# Altium schematic symbol library Resistors$.SchLib: 1243 symbols (part 3 of 7)
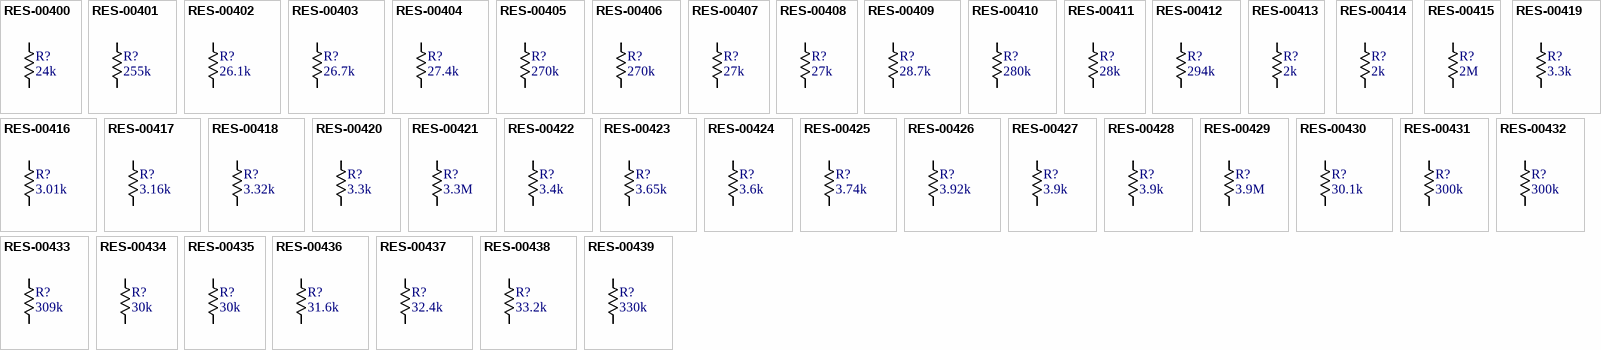
[diagram p34: symbols RES-00400 to RES-00439]

## RES-00411
designator R?, comment 28k
RES SMD 28K OHM 1% 1/8W 0805; Part Number: RES-00411; Manufacturer: Rohm Semiconductor; Manufacturer PN: KTR10EZPF2802; Power Rating: 0.125W; Resistance: 28k; Tolerance: 1%
footprint chip_0805
pins: 1, 2

## RES-00412
designator R?, comment 294k
RES SMD 294K OHM 1% 1/8W 0805; Part Number: RES-00412; Manufacturer: Rohm Semiconductor; Manufacturer PN: KTR10EZPF2943; Power Rating: 0.125W; Resistance: 294k; Tolerance: 1%
footprint chip_0805
pins: 1, 2

## RES-00413
designator R?, comment 2k
RES SMD 2K OHM 1% 1/4W 0603; Part Number: RES-00413; Manufacturer: Panasonic; Manufacturer PN: ERJ-PA3F2001V; Power Rating: 0.25W; Resistance: 2k; Tolerance: 1%
footprint chip_0603
pins: 1, 2

## RES-00414
designator R?, comment 2k
RES SMD 2K OHM 1% 1/8W 0805; Part Number: RES-00414; Manufacturer: Rohm Semiconductor; Manufacturer PN: KTR10EZPF2001; Power Rating: 0.125W; Resistance: 2k; Tolerance: 1%
footprint chip_0805
pins: 1, 2

## RES-00415
designator R?, comment 2M
RES SMD 2M OHM 1% 1/8W 0805; Part Number: RES-00415; Manufacturer: Rohm Semiconductor; Manufacturer PN: KTR10EZPF2004; Power Rating: 0.125W; Resistance: 2M; Tolerance: 1%
footprint chip_0805
pins: 1, 2

## RES-00416
designator R?, comment 3.01k
RES SMD 3.01K OHM 1% 1/8W 0805; Part Number: RES-00416; Manufacturer: Rohm Semiconductor; Manufacturer PN: KTR10EZPF3011; Power Rating: 0.125W; Resistance: 3.01k; Tolerance: 1%
footprint chip_0805
pins: 1, 2

## RES-00417
designator R?, comment 3.16k
RES SMD 3.16K OHM 1% 1/8W 0805; Part Number: RES-00417; Manufacturer: Rohm Semiconductor; Manufacturer PN: KTR10EZPF3161; Power Rating: 0.125W; Resistance: 3.16k; Tolerance: 1%
footprint chip_0805
pins: 1, 2

## RES-00418
designator R?, comment 3.32k
RES SMD 3.32K OHM 1% 1/8W 0805; Part Number: RES-00418; Manufacturer: Rohm Semiconductor; Manufacturer PN: KTR10EZPF3321; Power Rating: 0.125W; Resistance: 3.32k; Tolerance: 1%
footprint chip_0805
pins: 1, 2

## RES-00419
designator R?, comment 3.3k
RES SMD 3.3K OHM 1% 1/4W 0603; Part Number: RES-00419; Manufacturer: Panasonic; Manufacturer PN: ERJ-PA3F3301V; Power Rating: 0.25W; Resistance: 3.3k; Tolerance: 1%
footprint chip_0603
pins: 1, 2

## RES-00420
designator R?, comment 3.3k
RES SMD 3.3K OHM 1% 1/8W 0805; Part Number: RES-00420; Manufacturer: Rohm Semiconductor; Manufacturer PN: KTR10EZPF3301; Power Rating: 0.125W; Resistance: 3.3k; Tolerance: 1%
footprint chip_0805
pins: 1, 2

## RES-00421
designator R?, comment 3.3M
RES SMD 3.3M OHM 1% 1/8W 0805; Part Number: RES-00421; Manufacturer: Rohm Semiconductor; Manufacturer PN: KTR10EZPF3304; Power Rating: 0.125W; Resistance: 3.3M; Tolerance: 1%
footprint chip_0805
pins: 1, 2

## RES-00422
designator R?, comment 3.4k
RES SMD 3.4K OHM 1% 1/8W 0805; Part Number: RES-00422; Manufacturer: Rohm Semiconductor; Manufacturer PN: KTR10EZPF3401; Power Rating: 0.125W; Resistance: 3.4k; Tolerance: 1%
footprint chip_0805
pins: 1, 2

## RES-00423
designator R?, comment 3.65k
RES SMD 3.65K OHM 1% 1/8W 0805; Part Number: RES-00423; Manufacturer: Rohm Semiconductor; Manufacturer PN: KTR10EZPF3651; Power Rating: 0.125W; Resistance: 3.65k; Tolerance: 1%
footprint chip_0805
pins: 1, 2

## RES-00424
designator R?, comment 3.6k
RES SMD 3.6K OHM 1% 1/4W 0603; Part Number: RES-00424; Manufacturer: Panasonic; Manufacturer PN: ERJ-PA3F3601V; Power Rating: 0.25W; Resistance: 3.6k; Tolerance: 1%
footprint chip_0603
pins: 1, 2

## RES-00425
designator R?, comment 3.74k
RES SMD 3.74K OHM 1% 1/8W 0805; Part Number: RES-00425; Manufacturer: Rohm Semiconductor; Manufacturer PN: KTR10EZPF3741; Power Rating: 0.125W; Resistance: 3.74k; Tolerance: 1%
footprint chip_0805
pins: 1, 2

## RES-00426
designator R?, comment 3.92k
RES SMD 3.92K OHM 1% 1/8W 0805; Part Number: RES-00426; Manufacturer: Rohm Semiconductor; Manufacturer PN: KTR10EZPF3921; Power Rating: 0.125W; Resistance: 3.92k; Tolerance: 1%
footprint chip_0805
pins: 1, 2

## RES-00427
designator R?, comment 3.9k
RES SMD 3.9K OHM 1% 1/4W 0603; Part Number: RES-00427; Manufacturer: Panasonic; Manufacturer PN: ERJ-PA3F3901V; Power Rating: 0.25W; Resistance: 3.9k; Tolerance: 1%
footprint chip_0603
pins: 1, 2

## RES-00428
designator R?, comment 3.9k
RES SMD 3.9K OHM 1% 1/8W 0805; Part Number: RES-00428; Manufacturer: Rohm Semiconductor; Manufacturer PN: KTR10EZPF3901; Power Rating: 0.125W; Resistance: 3.9k; Tolerance: 1%
footprint chip_0805
pins: 1, 2

## RES-00429
designator R?, comment 3.9M
RES SMD 3.9M OHM 1% 1/8W 0805; Part Number: RES-00429; Manufacturer: Rohm Semiconductor; Manufacturer PN: KTR10EZPF3904; Power Rating: 0.125W; Resistance: 3.9M; Tolerance: 1%
footprint chip_0805
pins: 1, 2

## RES-00430
designator R?, comment 30.1k
RES SMD 30.1K OHM 1% 1/8W 0805; Part Number: RES-00430; Manufacturer: Rohm Semiconductor; Manufacturer PN: KTR10EZPF3012; Power Rating: 0.125W; Resistance: 30.1k; Tolerance: 1%
footprint chip_0805
pins: 1, 2

## RES-00431
designator R?, comment 300k
RES SMD 300K OHM 1% 1/4W 0603; Part Number: RES-00431; Manufacturer: Panasonic; Manufacturer PN: ERJ-PA3F3003V; Power Rating: 0.25W; Resistance: 300k; Tolerance: 1%
footprint chip_0603
pins: 1, 2

## RES-00432
designator R?, comment 300k
RES SMD 300K OHM 1% 1/8W 0805; Part Number: RES-00432; Manufacturer: Rohm Semiconductor; Manufacturer PN: KTR10EZPF3003; Power Rating: 0.125W; Resistance: 300k; Tolerance: 1%
footprint chip_0805
pins: 1, 2

## RES-00433
designator R?, comment 309k
RES SMD 309K OHM 1% 1/8W 0805; Part Number: RES-00433; Manufacturer: Rohm Semiconductor; Manufacturer PN: KTR10EZPF3093; Power Rating: 0.125W; Resistance: 309k; Tolerance: 1%
footprint chip_0805
pins: 1, 2

## RES-00434
designator R?, comment 30k
RES SMD 30K OHM 1% 1/4W 0603; Part Number: RES-00434; Manufacturer: Panasonic; Manufacturer PN: ERJ-PA3F3002V; Power Rating: 0.25W; Resistance: 30k; Tolerance: 1%
footprint chip_0603
pins: 1, 2

## RES-00435
designator R?, comment 30k
RES SMD 30K OHM 1% 1/8W 0805; Part Number: RES-00435; Manufacturer: Rohm Semiconductor; Manufacturer PN: KTR10EZPF3002; Power Rating: 0.125W; Resistance: 30k; Tolerance: 1%
footprint chip_0805
pins: 1, 2

## RES-00436
designator R?, comment 31.6k
RES SMD 31.6K OHM 1% 1/8W 0805; Part Number: RES-00436; Manufacturer: Rohm Semiconductor; Manufacturer PN: KTR10EZPF3162; Power Rating: 0.125W; Resistance: 31.6k; Tolerance: 1%
footprint chip_0805
pins: 1, 2

## RES-00437
designator R?, comment 32.4k
RES SMD 32.4K OHM 1% 1/8W 0805; Part Number: RES-00437; Manufacturer: Rohm Semiconductor; Manufacturer PN: KTR10EZPF3242; Power Rating: 0.125W; Resistance: 32.4k; Tolerance: 1%
footprint chip_0805
pins: 1, 2

## RES-00438
designator R?, comment 33.2k
RES SMD 33.2K OHM 1% 1/8W 0805; Part Number: RES-00438; Manufacturer: Rohm Semiconductor; Manufacturer PN: KTR10EZPF3322; Power Rating: 0.125W; Resistance: 33.2k; Tolerance: 1%
footprint chip_0805
pins: 1, 2

## RES-00439
designator R?, comment 330k
RES SMD 330K OHM 1% 1/4W 0603; Part Number: RES-00439; Manufacturer: Panasonic; Manufacturer PN: ERJ-PA3F3303V; Power Rating: 0.25W; Resistance: 330k; Tolerance: 1%
footprint chip_0603
pins: 1, 2

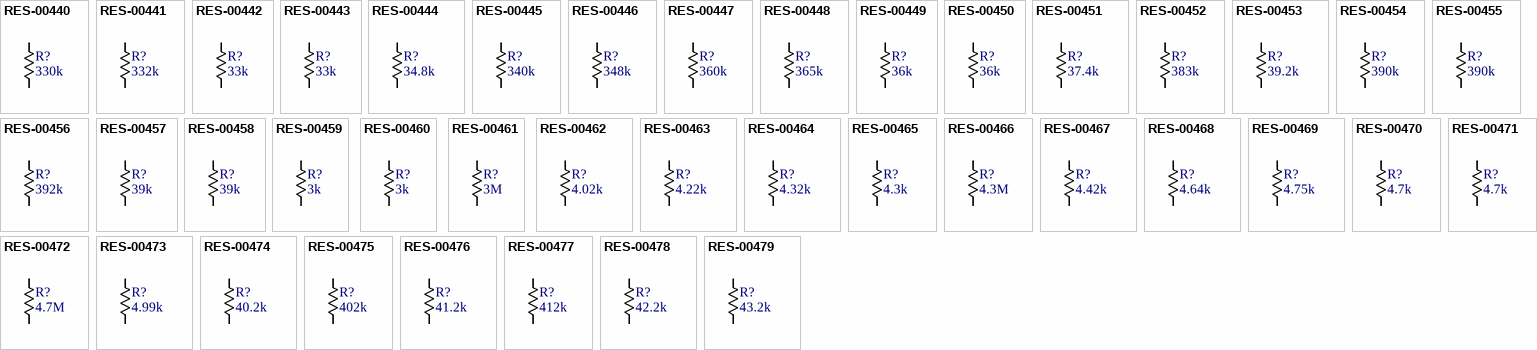
[diagram p11: symbols RES-00440 to RES-00479]

## RES-00440
designator R?, comment 330k
RES SMD 330K OHM 1% 1/8W 0805; Part Number: RES-00440; Manufacturer: Rohm Semiconductor; Manufacturer PN: KTR10EZPF3303; Power Rating: 0.125W; Resistance: 330k; Tolerance: 1%
footprint chip_0805
pins: 1, 2

## RES-00441
designator R?, comment 332k
RES SMD 332K OHM 1% 1/8W 0805; Part Number: RES-00441; Manufacturer: Rohm Semiconductor; Manufacturer PN: KTR10EZPF3323; Power Rating: 0.125W; Resistance: 332k; Tolerance: 1%
footprint chip_0805
pins: 1, 2

## RES-00442
designator R?, comment 33k
RES SMD 33K OHM 1% 1/4W 0603; Part Number: RES-00442; Manufacturer: Panasonic; Manufacturer PN: ERJ-PA3F3302V; Power Rating: 0.25W; Resistance: 33k; Tolerance: 1%
footprint chip_0603
pins: 1, 2

## RES-00443
designator R?, comment 33k
RES SMD 33K OHM 1% 1/8W 0805; Part Number: RES-00443; Manufacturer: Rohm Semiconductor; Manufacturer PN: KTR10EZPF3302; Power Rating: 0.125W; Resistance: 33k; Tolerance: 1%
footprint chip_0805
pins: 1, 2

## RES-00444
designator R?, comment 34.8k
RES SMD 34.8K OHM 1% 1/8W 0805; Part Number: RES-00444; Manufacturer: Rohm Semiconductor; Manufacturer PN: KTR10EZPF3482; Power Rating: 0.125W; Resistance: 34.8k; Tolerance: 1%
footprint chip_0805
pins: 1, 2

## RES-00445
designator R?, comment 340k
RES SMD 340K OHM 1% 1/8W 0805; Part Number: RES-00445; Manufacturer: Rohm Semiconductor; Manufacturer PN: KTR10EZPF3403; Power Rating: 0.125W; Resistance: 340k; Tolerance: 1%
footprint chip_0805
pins: 1, 2

## RES-00446
designator R?, comment 348k
RES SMD 348K OHM 1% 1/8W 0805; Part Number: RES-00446; Manufacturer: Rohm Semiconductor; Manufacturer PN: KTR10EZPF3483; Power Rating: 0.125W; Resistance: 348k; Tolerance: 1%
footprint chip_0805
pins: 1, 2

## RES-00447
designator R?, comment 360k
RES SMD 360K OHM 1% 1/4W 0603; Part Number: RES-00447; Manufacturer: Panasonic; Manufacturer PN: ERJ-PA3F3603V; Power Rating: 0.25W; Resistance: 360k; Tolerance: 1%
footprint chip_0603
pins: 1, 2

## RES-00448
designator R?, comment 365k
RES SMD 365K OHM 1% 1/8W 0805; Part Number: RES-00448; Manufacturer: Rohm Semiconductor; Manufacturer PN: KTR10EZPF3653; Power Rating: 0.125W; Resistance: 365k; Tolerance: 1%
footprint chip_0805
pins: 1, 2

## RES-00449
designator R?, comment 36k
RES SMD 36K OHM 1% 1/4W 0603; Part Number: RES-00449; Manufacturer: Panasonic; Manufacturer PN: ERJ-PA3F3602V; Power Rating: 0.25W; Resistance: 36k; Tolerance: 1%
footprint chip_0603
pins: 1, 2

## RES-00450
designator R?, comment 36k
RES SMD 36K OHM 1% 1/8W 0805; Part Number: RES-00450; Manufacturer: Rohm Semiconductor; Manufacturer PN: KTR10EZPF3602; Power Rating: 0.125W; Resistance: 36k; Tolerance: 1%
footprint chip_0805
pins: 1, 2

## RES-00451
designator R?, comment 37.4k
RES SMD 37.4K OHM 1% 1/8W 0805; Part Number: RES-00451; Manufacturer: Rohm Semiconductor; Manufacturer PN: KTR10EZPF3742; Power Rating: 0.125W; Resistance: 37.4k; Tolerance: 1%
footprint chip_0805
pins: 1, 2

## RES-00452
designator R?, comment 383k
RES SMD 383K OHM 1% 1/8W 0805; Part Number: RES-00452; Manufacturer: Rohm Semiconductor; Manufacturer PN: KTR10EZPF3833; Power Rating: 0.125W; Resistance: 383k; Tolerance: 1%
footprint chip_0805
pins: 1, 2

## RES-00453
designator R?, comment 39.2k
RES SMD 39.2K OHM 1% 1/8W 0805; Part Number: RES-00453; Manufacturer: Rohm Semiconductor; Manufacturer PN: KTR10EZPF3922; Power Rating: 0.125W; Resistance: 39.2k; Tolerance: 1%
footprint chip_0805
pins: 1, 2

## RES-00454
designator R?, comment 390k
RES SMD 390K OHM 1% 1/4W 0603; Part Number: RES-00454; Manufacturer: Panasonic; Manufacturer PN: ERJ-PA3F3903V; Power Rating: 0.25W; Resistance: 390k; Tolerance: 1%
footprint chip_0603
pins: 1, 2

## RES-00455
designator R?, comment 390k
RES SMD 390K OHM 1% 1/8W 0805; Part Number: RES-00455; Manufacturer: Rohm Semiconductor; Manufacturer PN: KTR10EZPF3903; Power Rating: 0.125W; Resistance: 390k; Tolerance: 1%
footprint chip_0805
pins: 1, 2

## RES-00456
designator R?, comment 392k
RES SMD 392K OHM 1% 1/8W 0805; Part Number: RES-00456; Manufacturer: Rohm Semiconductor; Manufacturer PN: KTR10EZPF3923; Power Rating: 0.125W; Resistance: 392k; Tolerance: 1%
footprint chip_0805
pins: 1, 2

## RES-00457
designator R?, comment 39k
RES SMD 39K OHM 1% 1/4W 0603; Part Number: RES-00457; Manufacturer: Panasonic; Manufacturer PN: ERJ-PA3F3902V; Power Rating: 0.25W; Resistance: 39k; Tolerance: 1%
footprint chip_0603
pins: 1, 2

## RES-00458
designator R?, comment 39k
RES SMD 39K OHM 1% 1/8W 0805; Part Number: RES-00458; Manufacturer: Rohm Semiconductor; Manufacturer PN: KTR10EZPF3902; Power Rating: 0.125W; Resistance: 39k; Tolerance: 1%
footprint chip_0805
pins: 1, 2

## RES-00459
designator R?, comment 3k
RES SMD 3K OHM 1% 1/4W 0603; Part Number: RES-00459; Manufacturer: Panasonic; Manufacturer PN: ERJ-PA3F3001V; Power Rating: 0.25W; Resistance: 3k; Tolerance: 1%
footprint chip_0603
pins: 1, 2

## RES-00460
designator R?, comment 3k
RES SMD 3K OHM 1% 1/8W 0805; Part Number: RES-00460; Manufacturer: Rohm Semiconductor; Manufacturer PN: KTR10EZPF3001; Power Rating: 0.125W; Resistance: 3k; Tolerance: 1%
footprint chip_0805
pins: 1, 2

## RES-00461
designator R?, comment 3M
RES SMD 3M OHM 1% 1/8W 0805; Part Number: RES-00461; Manufacturer: Rohm Semiconductor; Manufacturer PN: KTR10EZPF3004; Power Rating: 0.125W; Resistance: 3M; Tolerance: 1%
footprint chip_0805
pins: 1, 2

## RES-00462
designator R?, comment 4.02k
RES SMD 4.02K OHM 1% 1/8W 0805; Part Number: RES-00462; Manufacturer: Rohm Semiconductor; Manufacturer PN: KTR10EZPF4021; Power Rating: 0.125W; Resistance: 4.02k; Tolerance: 1%
footprint chip_0805
pins: 1, 2

## RES-00463
designator R?, comment 4.22k
RES SMD 4.22K OHM 1% 1/8W 0805; Part Number: RES-00463; Manufacturer: Rohm Semiconductor; Manufacturer PN: KTR10EZPF4221; Power Rating: 0.125W; Resistance: 4.22k; Tolerance: 1%
footprint chip_0805
pins: 1, 2

## RES-00464
designator R?, comment 4.32k
RES SMD 4.32K OHM 1% 1/8W 0805; Part Number: RES-00464; Manufacturer: Rohm Semiconductor; Manufacturer PN: KTR10EZPF4321; Power Rating: 0.125W; Resistance: 4.32k; Tolerance: 1%
footprint chip_0805
pins: 1, 2

## RES-00465
designator R?, comment 4.3k
RES SMD 4.3K OHM 1% 1/4W 0603; Part Number: RES-00465; Manufacturer: Panasonic; Manufacturer PN: ERJ-PA3F4301V; Power Rating: 0.25W; Resistance: 4.3k; Tolerance: 1%
footprint chip_0603
pins: 1, 2

## RES-00466
designator R?, comment 4.3M
RES SMD 4.3M OHM 1% 1/8W 0805; Part Number: RES-00466; Manufacturer: Rohm Semiconductor; Manufacturer PN: KTR10EZPF4304; Power Rating: 0.125W; Resistance: 4.3M; Tolerance: 1%
footprint chip_0805
pins: 1, 2

## RES-00467
designator R?, comment 4.42k
RES SMD 4.42K OHM 1% 1/8W 0805; Part Number: RES-00467; Manufacturer: Rohm Semiconductor; Manufacturer PN: KTR10EZPF4421; Power Rating: 0.125W; Resistance: 4.42k; Tolerance: 1%
footprint chip_0805
pins: 1, 2

## RES-00468
designator R?, comment 4.64k
RES SMD 4.64K OHM 1% 1/8W 0805; Part Number: RES-00468; Manufacturer: Rohm Semiconductor; Manufacturer PN: KTR10EZPF4641; Power Rating: 0.125W; Resistance: 4.64k; Tolerance: 1%
footprint chip_0805
pins: 1, 2

## RES-00469
designator R?, comment 4.75k
RES SMD 4.75K OHM 1% 1/8W 0805; Part Number: RES-00469; Manufacturer: Rohm Semiconductor; Manufacturer PN: KTR10EZPF4751; Power Rating: 0.125W; Resistance: 4.75k; Tolerance: 1%
footprint chip_0805
pins: 1, 2

## RES-00470
designator R?, comment 4.7k
RES SMD 4.7K OHM 1% 1/4W 0603; Part Number: RES-00470; Manufacturer: Panasonic; Manufacturer PN: ERJ-PA3F4701V; Power Rating: 0.25W; Resistance: 4.7k; Tolerance: 1%
footprint chip_0603
pins: 1, 2

## RES-00471
designator R?, comment 4.7k
RES SMD 4.7K OHM 1% 1/8W 0805; Part Number: RES-00471; Manufacturer: Rohm Semiconductor; Manufacturer PN: KTR10EZPF4701; Power Rating: 0.125W; Resistance: 4.7k; Tolerance: 1%
footprint chip_0805
pins: 1, 2

## RES-00472
designator R?, comment 4.7M
RES SMD 4.7M OHM 1% 1/8W 0805; Part Number: RES-00472; Manufacturer: Rohm Semiconductor; Manufacturer PN: KTR10EZPF4704; Power Rating: 0.125W; Resistance: 4.7M; Tolerance: 1%
footprint chip_0805
pins: 1, 2

## RES-00473
designator R?, comment 4.99k
RES SMD 4.99K OHM 1% 1/8W 0805; Part Number: RES-00473; Manufacturer: Rohm Semiconductor; Manufacturer PN: KTR10EZPF4991; Power Rating: 0.125W; Resistance: 4.99k; Tolerance: 1%
footprint chip_0805
pins: 1, 2

## RES-00474
designator R?, comment 40.2k
RES SMD 40.2K OHM 1% 1/8W 0805; Part Number: RES-00474; Manufacturer: Rohm Semiconductor; Manufacturer PN: KTR10EZPF4022; Power Rating: 0.125W; Resistance: 40.2k; Tolerance: 1%
footprint chip_0805
pins: 1, 2

## RES-00475
designator R?, comment 402k
RES SMD 402K OHM 1% 1/8W 0805; Part Number: RES-00475; Manufacturer: Rohm Semiconductor; Manufacturer PN: KTR10EZPF4023; Power Rating: 0.125W; Resistance: 402k; Tolerance: 1%
footprint chip_0805
pins: 1, 2

## RES-00476
designator R?, comment 41.2k
RES SMD 41.2K OHM 1% 1/8W 0805; Part Number: RES-00476; Manufacturer: Rohm Semiconductor; Manufacturer PN: KTR10EZPF4122; Power Rating: 0.125W; Resistance: 41.2k; Tolerance: 1%
footprint chip_0805
pins: 1, 2

## RES-00477
designator R?, comment 412k
RES SMD 412K OHM 1% 1/8W 0805; Part Number: RES-00477; Manufacturer: Rohm Semiconductor; Manufacturer PN: KTR10EZPF4123; Power Rating: 0.125W; Resistance: 412k; Tolerance: 1%
footprint chip_0805
pins: 1, 2

## RES-00478
designator R?, comment 42.2k
RES SMD 42.2K OHM 1% 1/8W 0805; Part Number: RES-00478; Manufacturer: Rohm Semiconductor; Manufacturer PN: KTR10EZPF4222; Power Rating: 0.125W; Resistance: 42.2k; Tolerance: 1%
footprint chip_0805
pins: 1, 2

## RES-00479
designator R?, comment 43.2k
RES SMD 43.2K OHM 1% 1/8W 0805; Part Number: RES-00479; Manufacturer: Rohm Semiconductor; Manufacturer PN: KTR10EZPF4322; Power Rating: 0.125W; Resistance: 43.2k; Tolerance: 1%
footprint chip_0805
pins: 1, 2

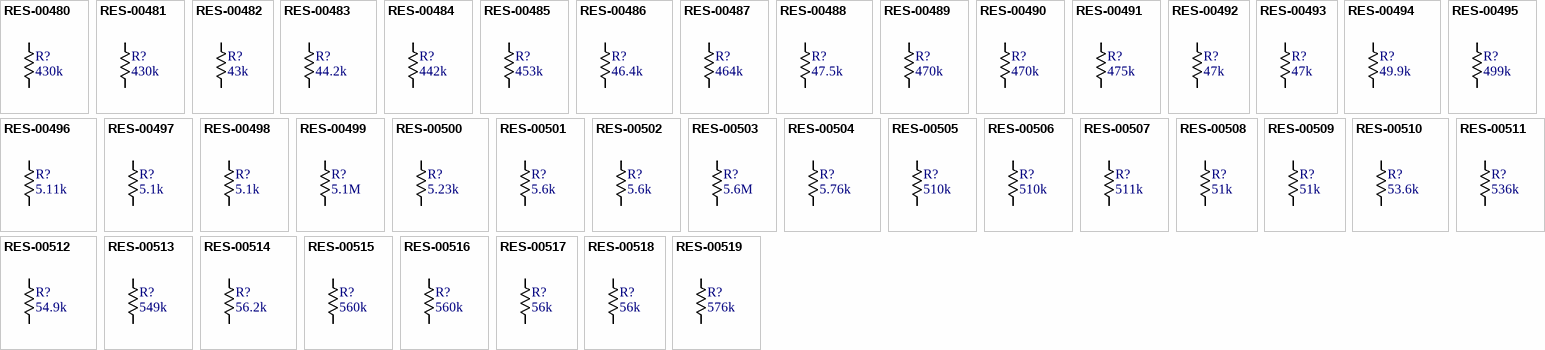
[diagram p12: symbols RES-00480 to RES-00519]

## RES-00480
designator R?, comment 430k
RES SMD 430K OHM 1% 1/4W 0603; Part Number: RES-00480; Manufacturer: Panasonic; Manufacturer PN: ERJ-PA3F4303V; Power Rating: 0.25W; Resistance: 430k; Tolerance: 1%
footprint chip_0603
pins: 1, 2

## RES-00481
designator R?, comment 430k
RES SMD 430K OHM 1% 1/8W 0805; Part Number: RES-00481; Manufacturer: Rohm Semiconductor; Manufacturer PN: KTR10EZPF4303; Power Rating: 0.125W; Resistance: 430k; Tolerance: 1%
footprint chip_0805
pins: 1, 2

## RES-00482
designator R?, comment 43k
RES SMD 43K OHM 1% 1/4W 0603; Part Number: RES-00482; Manufacturer: Panasonic; Manufacturer PN: ERJ-PA3F4302V; Power Rating: 0.25W; Resistance: 43k; Tolerance: 1%
footprint chip_0603
pins: 1, 2

## RES-00483
designator R?, comment 44.2k
RES SMD 44.2K OHM 1% 1/8W 0805; Part Number: RES-00483; Manufacturer: Rohm Semiconductor; Manufacturer PN: KTR10EZPF4422; Power Rating: 0.125W; Resistance: 44.2k; Tolerance: 1%
footprint chip_0805
pins: 1, 2

## RES-00484
designator R?, comment 442k
RES SMD 442K OHM 1% 1/8W 0805; Part Number: RES-00484; Manufacturer: Rohm Semiconductor; Manufacturer PN: KTR10EZPF4423; Power Rating: 0.125W; Resistance: 442k; Tolerance: 1%
footprint chip_0805
pins: 1, 2

## RES-00485
designator R?, comment 453k
RES SMD 453K OHM 1% 1/8W 0805; Part Number: RES-00485; Manufacturer: Rohm Semiconductor; Manufacturer PN: KTR10EZPF4533; Power Rating: 0.125W; Resistance: 453k; Tolerance: 1%
footprint chip_0805
pins: 1, 2

## RES-00486
designator R?, comment 46.4k
RES SMD 46.4K OHM 1% 1/8W 0805; Part Number: RES-00486; Manufacturer: Rohm Semiconductor; Manufacturer PN: KTR10EZPF4642; Power Rating: 0.125W; Resistance: 46.4k; Tolerance: 1%
footprint chip_0805
pins: 1, 2

## RES-00487
designator R?, comment 464k
RES SMD 464K OHM 1% 1/8W 0805; Part Number: RES-00487; Manufacturer: Rohm Semiconductor; Manufacturer PN: KTR10EZPF4643; Power Rating: 0.125W; Resistance: 464k; Tolerance: 1%
footprint chip_0805
pins: 1, 2

## RES-00488
designator R?, comment 47.5k
RES SMD 47.5K OHM 1% 1/8W 0805; Part Number: RES-00488; Manufacturer: Rohm Semiconductor; Manufacturer PN: KTR10EZPF4752; Power Rating: 0.125W; Resistance: 47.5k; Tolerance: 1%
footprint chip_0805
pins: 1, 2

## RES-00489
designator R?, comment 470k
RES SMD 470K OHM 1% 1/4W 0603; Part Number: RES-00489; Manufacturer: Panasonic; Manufacturer PN: ERJ-PA3F4703V; Power Rating: 0.25W; Resistance: 470k; Tolerance: 1%
footprint chip_0603
pins: 1, 2

## RES-00490
designator R?, comment 470k
RES SMD 470K OHM 1% 1/8W 0805; Part Number: RES-00490; Manufacturer: Rohm Semiconductor; Manufacturer PN: KTR10EZPF4703; Power Rating: 0.125W; Resistance: 470k; Tolerance: 1%
footprint chip_0805
pins: 1, 2

## RES-00491
designator R?, comment 475k
RES SMD 475K OHM 1% 1/8W 0805; Part Number: RES-00491; Manufacturer: Rohm Semiconductor; Manufacturer PN: KTR10EZPF4753; Power Rating: 0.125W; Resistance: 475k; Tolerance: 1%
footprint chip_0805
pins: 1, 2

## RES-00492
designator R?, comment 47k
RES SMD 47K OHM 1% 1/4W 0603; Part Number: RES-00492; Manufacturer: Panasonic; Manufacturer PN: ERJ-PA3F4702V; Power Rating: 0.25W; Resistance: 47k; Tolerance: 1%
footprint chip_0603
pins: 1, 2

## RES-00493
designator R?, comment 47k
RES SMD 47K OHM 1% 1/8W 0805; Part Number: RES-00493; Manufacturer: Rohm Semiconductor; Manufacturer PN: KTR10EZPF4702; Power Rating: 0.125W; Resistance: 47k; Tolerance: 1%
footprint chip_0805
pins: 1, 2

## RES-00494
designator R?, comment 49.9k
RES SMD 49.9K OHM 1% 1/8W 0805; Part Number: RES-00494; Manufacturer: Rohm Semiconductor; Manufacturer PN: KTR10EZPF4992; Power Rating: 0.125W; Resistance: 49.9k; Tolerance: 1%
footprint chip_0805
pins: 1, 2

## RES-00495
designator R?, comment 499k
RES SMD 499K OHM 1% 1/8W 0805; Part Number: RES-00495; Manufacturer: Rohm Semiconductor; Manufacturer PN: KTR10EZPF4993; Power Rating: 0.125W; Resistance: 499k; Tolerance: 1%
footprint chip_0805
pins: 1, 2

## RES-00496
designator R?, comment 5.11k
RES SMD 5.11K OHM 1% 1/8W 0805; Part Number: RES-00496; Manufacturer: Rohm Semiconductor; Manufacturer PN: KTR10EZPF5111; Power Rating: 0.125W; Resistance: 5.11k; Tolerance: 1%
footprint chip_0805
pins: 1, 2

## RES-00497
designator R?, comment 5.1k
RES SMD 5.1K OHM 1% 1/4W 0603; Part Number: RES-00497; Manufacturer: Panasonic; Manufacturer PN: ERJ-PA3F5101V; Power Rating: 0.25W; Resistance: 5.1k; Tolerance: 1%
footprint chip_0603
pins: 1, 2

## RES-00498
designator R?, comment 5.1k
RES SMD 5.1K OHM 1% 1/8W 0805; Part Number: RES-00498; Manufacturer: Rohm Semiconductor; Manufacturer PN: KTR10EZPF5101; Power Rating: 0.125W; Resistance: 5.1k; Tolerance: 1%
footprint chip_0805
pins: 1, 2

## RES-00499
designator R?, comment 5.1M
RES SMD 5.1M OHM 1% 1/8W 0805; Part Number: RES-00499; Manufacturer: Rohm Semiconductor; Manufacturer PN: KTR10EZPF5104; Power Rating: 0.125W; Resistance: 5.1M; Tolerance: 1%
footprint chip_0805
pins: 1, 2

## RES-00500
designator R?, comment 5.23k
RES SMD 5.23K OHM 1% 1/8W 0805; Part Number: RES-00500; Manufacturer: Rohm Semiconductor; Manufacturer PN: KTR10EZPF5231; Power Rating: 0.125W; Resistance: 5.23k; Tolerance: 1%
footprint chip_0805
pins: 1, 2

## RES-00501
designator R?, comment 5.6k
RES SMD 5.6K OHM 1% 1/4W 0603; Part Number: RES-00501; Manufacturer: Panasonic; Manufacturer PN: ERJ-PA3F5601V; Power Rating: 0.25W; Resistance: 5.6k; Tolerance: 1%
footprint chip_0603
pins: 1, 2

## RES-00502
designator R?, comment 5.6k
RES SMD 5.6K OHM 1% 1/8W 0805; Part Number: RES-00502; Manufacturer: Rohm Semiconductor; Manufacturer PN: KTR10EZPF5601; Power Rating: 0.125W; Resistance: 5.6k; Tolerance: 1%
footprint chip_0805
pins: 1, 2

## RES-00503
designator R?, comment 5.6M
RES SMD 5.6M OHM 1% 1/8W 0805; Part Number: RES-00503; Manufacturer: Rohm Semiconductor; Manufacturer PN: KTR10EZPF5604; Power Rating: 0.125W; Resistance: 5.6M; Tolerance: 1%
footprint chip_0805
pins: 1, 2

## RES-00504
designator R?, comment 5.76k
RES SMD 5.76K OHM 1% 1/8W 0805; Part Number: RES-00504; Manufacturer: Rohm Semiconductor; Manufacturer PN: KTR10EZPF5761; Power Rating: 0.125W; Resistance: 5.76k; Tolerance: 1%
footprint chip_0805
pins: 1, 2

## RES-00505
designator R?, comment 510k
RES SMD 510K OHM 1% 1/4W 0603; Part Number: RES-00505; Manufacturer: Panasonic; Manufacturer PN: ERJ-PA3F5103V; Power Rating: 0.25W; Resistance: 510k; Tolerance: 1%
footprint chip_0603
pins: 1, 2

## RES-00506
designator R?, comment 510k
RES SMD 510K OHM 1% 1/8W 0805; Part Number: RES-00506; Manufacturer: Rohm Semiconductor; Manufacturer PN: KTR10EZPF5103; Power Rating: 0.125W; Resistance: 510k; Tolerance: 1%
footprint chip_0805
pins: 1, 2

## RES-00507
designator R?, comment 511k
RES SMD 511K OHM 1% 1/8W 0805; Part Number: RES-00507; Manufacturer: Rohm Semiconductor; Manufacturer PN: KTR10EZPF5113; Power Rating: 0.125W; Resistance: 511k; Tolerance: 1%
footprint chip_0805
pins: 1, 2

## RES-00508
designator R?, comment 51k
RES SMD 51K OHM 1% 1/4W 0603; Part Number: RES-00508; Manufacturer: Panasonic; Manufacturer PN: ERJ-PA3F5102V; Power Rating: 0.25W; Resistance: 51k; Tolerance: 1%
footprint chip_0603
pins: 1, 2

## RES-00509
designator R?, comment 51k
RES SMD 51K OHM 1% 1/8W 0805; Part Number: RES-00509; Manufacturer: Rohm Semiconductor; Manufacturer PN: KTR10EZPF5102; Power Rating: 0.125W; Resistance: 51k; Tolerance: 1%
footprint chip_0805
pins: 1, 2

## RES-00510
designator R?, comment 53.6k
RES SMD 53.6K OHM 1% 1/8W 0805; Part Number: RES-00510; Manufacturer: Rohm Semiconductor; Manufacturer PN: KTR10EZPF5362; Power Rating: 0.125W; Resistance: 53.6k; Tolerance: 1%
footprint chip_0805
pins: 1, 2

## RES-00511
designator R?, comment 536k
RES SMD 536K OHM 1% 1/8W 0805; Part Number: RES-00511; Manufacturer: Rohm Semiconductor; Manufacturer PN: KTR10EZPF5363; Power Rating: 0.125W; Resistance: 536k; Tolerance: 1%
footprint chip_0805
pins: 1, 2

## RES-00512
designator R?, comment 54.9k
RES SMD 54.9K OHM 1% 1/8W 0805; Part Number: RES-00512; Manufacturer: Rohm Semiconductor; Manufacturer PN: KTR10EZPF5492; Power Rating: 0.125W; Resistance: 54.9k; Tolerance: 1%
footprint chip_0805
pins: 1, 2

## RES-00513
designator R?, comment 549k
RES SMD 549K OHM 1% 1/8W 0805; Part Number: RES-00513; Manufacturer: Rohm Semiconductor; Manufacturer PN: KTR10EZPF5493; Power Rating: 0.125W; Resistance: 549k; Tolerance: 1%
footprint chip_0805
pins: 1, 2

## RES-00514
designator R?, comment 56.2k
RES SMD 56.2K OHM 1% 1/8W 0805; Part Number: RES-00514; Manufacturer: Rohm Semiconductor; Manufacturer PN: KTR10EZPF5622; Power Rating: 0.125W; Resistance: 56.2k; Tolerance: 1%
footprint chip_0805
pins: 1, 2

## RES-00515
designator R?, comment 560k
RES SMD 560K OHM 1% 1/4W 0603; Part Number: RES-00515; Manufacturer: Panasonic; Manufacturer PN: ERJ-PA3F5603V; Power Rating: 0.25W; Resistance: 560k; Tolerance: 1%
footprint chip_0603
pins: 1, 2

## RES-00516
designator R?, comment 560k
RES SMD 560K OHM 1% 1/8W 0805; Part Number: RES-00516; Manufacturer: Rohm Semiconductor; Manufacturer PN: KTR10EZPF5603; Power Rating: 0.125W; Resistance: 560k; Tolerance: 1%
footprint chip_0805
pins: 1, 2

## RES-00517
designator R?, comment 56k
RES SMD 56K OHM 1% 1/4W 0603; Part Number: RES-00517; Manufacturer: Panasonic; Manufacturer PN: ERJ-PA3F5602V; Power Rating: 0.25W; Resistance: 56k; Tolerance: 1%
footprint chip_0603
pins: 1, 2

## RES-00518
designator R?, comment 56k
RES SMD 56K OHM 1% 1/8W 0805; Part Number: RES-00518; Manufacturer: Rohm Semiconductor; Manufacturer PN: KTR10EZPF5602; Power Rating: 0.125W; Resistance: 56k; Tolerance: 1%
footprint chip_0805
pins: 1, 2

## RES-00519
designator R?, comment 576k
RES SMD 576K OHM 1% 1/8W 0805; Part Number: RES-00519; Manufacturer: Rohm Semiconductor; Manufacturer PN: KTR10EZPF5763; Power Rating: 0.125W; Resistance: 576k; Tolerance: 1%
footprint chip_0805
pins: 1, 2

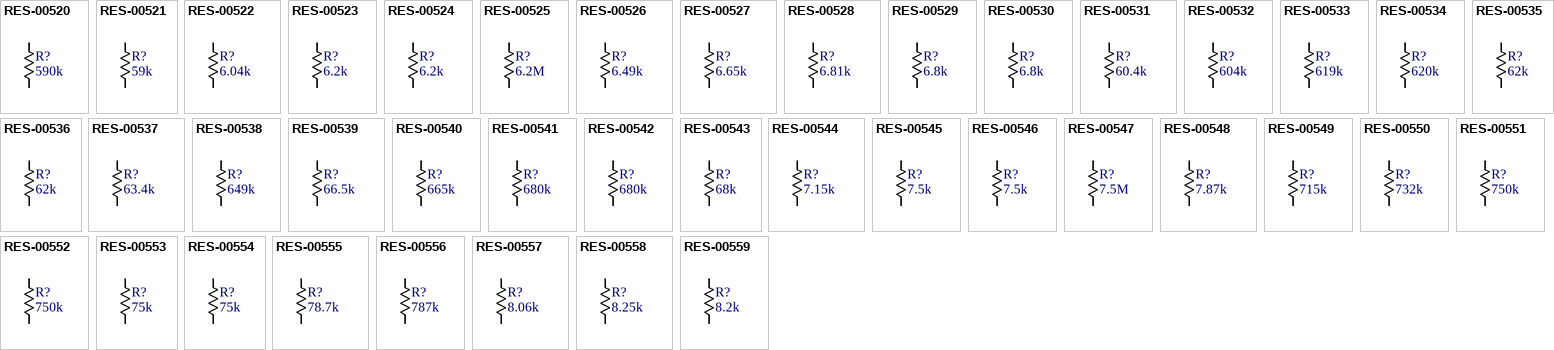
[diagram p13: symbols RES-00520 to RES-00559]

## RES-00520
designator R?, comment 590k
RES SMD 590K OHM 1% 1/8W 0805; Part Number: RES-00520; Manufacturer: Rohm Semiconductor; Manufacturer PN: KTR10EZPF5903; Power Rating: 0.125W; Resistance: 590k; Tolerance: 1%
footprint chip_0805
pins: 1, 2

## RES-00521
designator R?, comment 59k
RES SMD 59K OHM 1% 1/8W 0805; Part Number: RES-00521; Manufacturer: Rohm Semiconductor; Manufacturer PN: KTR10EZPF5902; Power Rating: 0.125W; Resistance: 59k; Tolerance: 1%
footprint chip_0805
pins: 1, 2

## RES-00522
designator R?, comment 6.04k
RES SMD 6.04K OHM 1% 1/8W 0805; Part Number: RES-00522; Manufacturer: Rohm Semiconductor; Manufacturer PN: KTR10EZPF6041; Power Rating: 0.125W; Resistance: 6.04k; Tolerance: 1%
footprint chip_0805
pins: 1, 2

## RES-00523
designator R?, comment 6.2k
RES SMD 6.2K OHM 1% 1/4W 0603; Part Number: RES-00523; Manufacturer: Panasonic; Manufacturer PN: ERJ-PA3F6201V; Power Rating: 0.25W; Resistance: 6.2k; Tolerance: 1%
footprint chip_0603
pins: 1, 2

## RES-00524
designator R?, comment 6.2k
RES SMD 6.2K OHM 1% 1/8W 0805; Part Number: RES-00524; Manufacturer: Rohm Semiconductor; Manufacturer PN: KTR10EZPF6201; Power Rating: 0.125W; Resistance: 6.2k; Tolerance: 1%
footprint chip_0805
pins: 1, 2

## RES-00525
designator R?, comment 6.2M
RES SMD 6.2M OHM 1% 1/8W 0805; Part Number: RES-00525; Manufacturer: Rohm Semiconductor; Manufacturer PN: KTR10EZPF6204; Power Rating: 0.125W; Resistance: 6.2M; Tolerance: 1%
footprint chip_0805
pins: 1, 2

## RES-00526
designator R?, comment 6.49k
RES SMD 6.49K OHM 1% 1/8W 0805; Part Number: RES-00526; Manufacturer: Rohm Semiconductor; Manufacturer PN: KTR10EZPF6491; Power Rating: 0.125W; Resistance: 6.49k; Tolerance: 1%
footprint chip_0805
pins: 1, 2

## RES-00527
designator R?, comment 6.65k
RES SMD 6.65K OHM 1% 1/8W 0805; Part Number: RES-00527; Manufacturer: Rohm Semiconductor; Manufacturer PN: KTR10EZPF6651; Power Rating: 0.125W; Resistance: 6.65k; Tolerance: 1%
footprint chip_0805
pins: 1, 2

## RES-00528
designator R?, comment 6.81k
RES SMD 6.81K OHM 1% 1/8W 0805; Part Number: RES-00528; Manufacturer: Rohm Semiconductor; Manufacturer PN: KTR10EZPF6811; Power Rating: 0.125W; Resistance: 6.81k; Tolerance: 1%
footprint chip_0805
pins: 1, 2

## RES-00529
designator R?, comment 6.8k
RES SMD 6.8K OHM 1% 1/4W 0603; Part Number: RES-00529; Manufacturer: Panasonic; Manufacturer PN: ERJ-PA3F6801V; Power Rating: 0.25W; Resistance: 6.8k; Tolerance: 1%
footprint chip_0603
pins: 1, 2

## RES-00530
designator R?, comment 6.8k
RES SMD 6.8K OHM 1% 1/8W 0805; Part Number: RES-00530; Manufacturer: Rohm Semiconductor; Manufacturer PN: KTR10EZPF6801; Power Rating: 0.125W; Resistance: 6.8k; Tolerance: 1%
footprint chip_0805
pins: 1, 2

## RES-00531
designator R?, comment 60.4k
RES SMD 60.4K OHM 1% 1/8W 0805; Part Number: RES-00531; Manufacturer: Rohm Semiconductor; Manufacturer PN: KTR10EZPF6042; Power Rating: 0.125W; Resistance: 60.4k; Tolerance: 1%
footprint chip_0805
pins: 1, 2

## RES-00532
designator R?, comment 604k
RES SMD 604K OHM 1% 1/8W 0805; Part Number: RES-00532; Manufacturer: Rohm Semiconductor; Manufacturer PN: KTR10EZPF6043; Power Rating: 0.125W; Resistance: 604k; Tolerance: 1%
footprint chip_0805
pins: 1, 2

## RES-00533
designator R?, comment 619k
RES SMD 619K OHM 1% 1/8W 0805; Part Number: RES-00533; Manufacturer: Rohm Semiconductor; Manufacturer PN: KTR10EZPF6193; Power Rating: 0.125W; Resistance: 619k; Tolerance: 1%
footprint chip_0805
pins: 1, 2

## RES-00534
designator R?, comment 620k
RES SMD 620K OHM 1% 1/4W 0603; Part Number: RES-00534; Manufacturer: Panasonic; Manufacturer PN: ERJ-PA3F6203V; Power Rating: 0.25W; Resistance: 620k; Tolerance: 1%
footprint chip_0603
pins: 1, 2

## RES-00535
designator R?, comment 62k
RES SMD 62K OHM 1% 1/4W 0603; Part Number: RES-00535; Manufacturer: Panasonic; Manufacturer PN: ERJ-PA3F6202V; Power Rating: 0.25W; Resistance: 62k; Tolerance: 1%
footprint chip_0603
pins: 1, 2

## RES-00536
designator R?, comment 62k
RES SMD 62K OHM 1% 1/8W 0805; Part Number: RES-00536; Manufacturer: Rohm Semiconductor; Manufacturer PN: KTR10EZPF6202; Power Rating: 0.125W; Resistance: 62k; Tolerance: 1%
footprint chip_0805
pins: 1, 2

## RES-00537
designator R?, comment 63.4k
RES SMD 63.4K OHM 1% 1/8W 0805; Part Number: RES-00537; Manufacturer: Rohm Semiconductor; Manufacturer PN: KTR10EZPF6342; Power Rating: 0.125W; Resistance: 63.4k; Tolerance: 1%
footprint chip_0805
pins: 1, 2

## RES-00538
designator R?, comment 649k
RES SMD 649K OHM 1% 1/8W 0805; Part Number: RES-00538; Manufacturer: Rohm Semiconductor; Manufacturer PN: KTR10EZPF6493; Power Rating: 0.125W; Resistance: 649k; Tolerance: 1%
footprint chip_0805
pins: 1, 2

## RES-00539
designator R?, comment 66.5k
RES SMD 66.5K OHM 1% 1/8W 0805; Part Number: RES-00539; Manufacturer: Rohm Semiconductor; Manufacturer PN: KTR10EZPF6652; Power Rating: 0.125W; Resistance: 66.5k; Tolerance: 1%
footprint chip_0805
pins: 1, 2

## RES-00540
designator R?, comment 665k
RES SMD 665K OHM 1% 1/8W 0805; Part Number: RES-00540; Manufacturer: Rohm Semiconductor; Manufacturer PN: KTR10EZPF6653; Power Rating: 0.125W; Resistance: 665k; Tolerance: 1%
footprint chip_0805
pins: 1, 2

## RES-00541
designator R?, comment 680k
RES SMD 680K OHM 1% 1/4W 0603; Part Number: RES-00541; Manufacturer: Panasonic; Manufacturer PN: ERJ-PA3F6803V; Power Rating: 0.25W; Resistance: 680k; Tolerance: 1%
footprint chip_0603
pins: 1, 2

## RES-00542
designator R?, comment 680k
RES SMD 680K OHM 1% 1/8W 0805; Part Number: RES-00542; Manufacturer: Rohm Semiconductor; Manufacturer PN: KTR10EZPF6803; Power Rating: 0.125W; Resistance: 680k; Tolerance: 1%
footprint chip_0805
pins: 1, 2

## RES-00543
designator R?, comment 68k
RES SMD 68K OHM 1% 1/4W 0603; Part Number: RES-00543; Manufacturer: Panasonic; Manufacturer PN: ERJ-PA3F6802V; Power Rating: 0.25W; Resistance: 68k; Tolerance: 1%
footprint chip_0603
pins: 1, 2

## RES-00544
designator R?, comment 7.15k
RES SMD 7.15K OHM 1% 1/8W 0805; Part Number: RES-00544; Manufacturer: Rohm Semiconductor; Manufacturer PN: KTR10EZPF7151; Power Rating: 0.125W; Resistance: 7.15k; Tolerance: 1%
footprint chip_0805
pins: 1, 2

## RES-00545
designator R?, comment 7.5k
RES SMD 7.5K OHM 1% 1/4W 0603; Part Number: RES-00545; Manufacturer: Panasonic; Manufacturer PN: ERJ-PA3F7501V; Power Rating: 0.25W; Resistance: 7.5k; Tolerance: 1%
footprint chip_0603
pins: 1, 2

## RES-00546
designator R?, comment 7.5k
RES SMD 7.5K OHM 1% 1/8W 0805; Part Number: RES-00546; Manufacturer: Rohm Semiconductor; Manufacturer PN: KTR10EZPF7501; Power Rating: 0.125W; Resistance: 7.5k; Tolerance: 1%
footprint chip_0805
pins: 1, 2

## RES-00547
designator R?, comment 7.5M
RES SMD 7.5M OHM 1% 1/8W 0805; Part Number: RES-00547; Manufacturer: Rohm Semiconductor; Manufacturer PN: KTR10EZPF7504; Power Rating: 0.125W; Resistance: 7.5M; Tolerance: 1%
footprint chip_0805
pins: 1, 2

## RES-00548
designator R?, comment 7.87k
RES SMD 7.87K OHM 1% 1/8W 0805; Part Number: RES-00548; Manufacturer: Rohm Semiconductor; Manufacturer PN: KTR10EZPF7871; Power Rating: 0.125W; Resistance: 7.87k; Tolerance: 1%
footprint chip_0805
pins: 1, 2

## RES-00549
designator R?, comment 715k
RES SMD 715K OHM 1% 1/8W 0805; Part Number: RES-00549; Manufacturer: Rohm Semiconductor; Manufacturer PN: KTR10EZPF7153; Power Rating: 0.125W; Resistance: 715k; Tolerance: 1%
footprint chip_0805
pins: 1, 2

## RES-00550
designator R?, comment 732k
RES SMD 732K OHM 1% 1/8W 0805; Part Number: RES-00550; Manufacturer: Rohm Semiconductor; Manufacturer PN: KTR10EZPF7323; Power Rating: 0.125W; Resistance: 732k; Tolerance: 1%
footprint chip_0805
pins: 1, 2

## RES-00551
designator R?, comment 750k
RES SMD 750K OHM 1% 1/4W 0603; Part Number: RES-00551; Manufacturer: Panasonic; Manufacturer PN: ERJ-PA3F7503V; Power Rating: 0.25W; Resistance: 750k; Tolerance: 1%
footprint chip_0603
pins: 1, 2

## RES-00552
designator R?, comment 750k
RES SMD 750K OHM 1% 1/8W 0805; Part Number: RES-00552; Manufacturer: Rohm Semiconductor; Manufacturer PN: KTR10EZPF7503; Power Rating: 0.125W; Resistance: 750k; Tolerance: 1%
footprint chip_0805
pins: 1, 2

## RES-00553
designator R?, comment 75k
RES SMD 75K OHM 1% 1/4W 0603; Part Number: RES-00553; Manufacturer: Panasonic; Manufacturer PN: ERJ-PA3F7502V; Power Rating: 0.25W; Resistance: 75k; Tolerance: 1%
footprint chip_0603
pins: 1, 2

## RES-00554
designator R?, comment 75k
RES SMD 75K OHM 1% 1/8W 0805; Part Number: RES-00554; Manufacturer: Rohm Semiconductor; Manufacturer PN: KTR10EZPF7502; Power Rating: 0.125W; Resistance: 75k; Tolerance: 1%
footprint chip_0805
pins: 1, 2

## RES-00555
designator R?, comment 78.7k
RES SMD 78.7K OHM 1% 1/8W 0805; Part Number: RES-00555; Manufacturer: Rohm Semiconductor; Manufacturer PN: KTR10EZPF7872; Power Rating: 0.125W; Resistance: 78.7k; Tolerance: 1%
footprint chip_0805
pins: 1, 2

## RES-00556
designator R?, comment 787k
RES SMD 787K OHM 1% 1/8W 0805; Part Number: RES-00556; Manufacturer: Rohm Semiconductor; Manufacturer PN: KTR10EZPF7873; Power Rating: 0.125W; Resistance: 787k; Tolerance: 1%
footprint chip_0805
pins: 1, 2

## RES-00557
designator R?, comment 8.06k
RES SMD 8.06K OHM 1% 1/8W 0805; Part Number: RES-00557; Manufacturer: Rohm Semiconductor; Manufacturer PN: KTR10EZPF8061; Power Rating: 0.125W; Resistance: 8.06k; Tolerance: 1%
footprint chip_0805
pins: 1, 2

## RES-00558
designator R?, comment 8.25k
RES SMD 8.25K OHM 1% 1/8W 0805; Part Number: RES-00558; Manufacturer: Rohm Semiconductor; Manufacturer PN: KTR10EZPF8251; Power Rating: 0.125W; Resistance: 8.25k; Tolerance: 1%
footprint chip_0805
pins: 1, 2

## RES-00559
designator R?, comment 8.2k
RES SMD 8.2K OHM 1% 1/4W 0603; Part Number: RES-00559; Manufacturer: Panasonic; Manufacturer PN: ERJ-PA3F8201V; Power Rating: 0.25W; Resistance: 8.2k; Tolerance: 1%
footprint chip_0603
pins: 1, 2

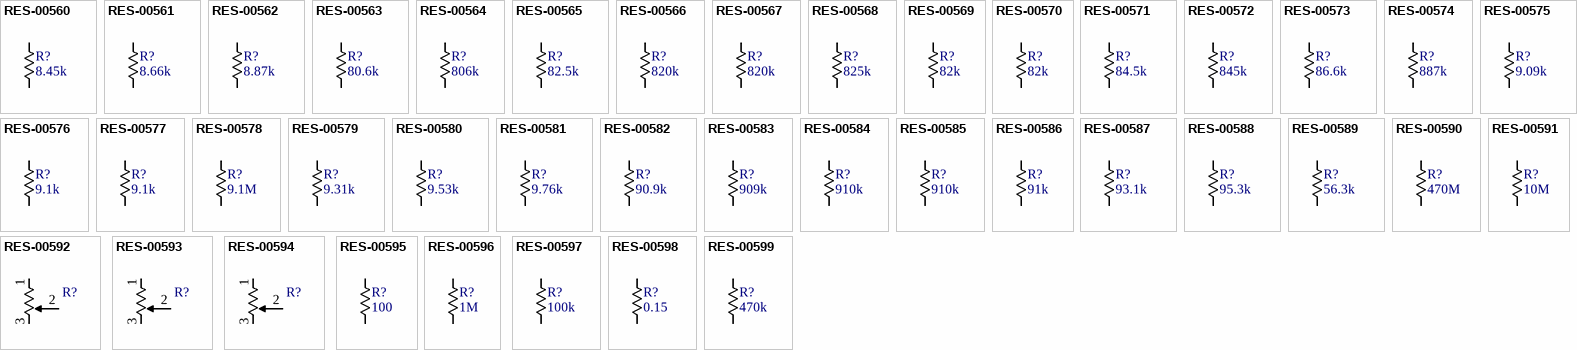
[diagram p14: symbols RES-00560 to RES-00599]

## RES-00560
designator R?, comment 8.45k
RES SMD 8.45K OHM 1% 1/8W 0805; Part Number: RES-00560; Manufacturer: Rohm Semiconductor; Manufacturer PN: KTR10EZPF8451; Power Rating: 0.125W; Resistance: 8.45k; Tolerance: 1%
footprint chip_0805
pins: 1, 2

## RES-00561
designator R?, comment 8.66k
RES SMD 8.66K OHM 1% 1/8W 0805; Part Number: RES-00561; Manufacturer: Rohm Semiconductor; Manufacturer PN: KTR10EZPF8661; Power Rating: 0.125W; Resistance: 8.66k; Tolerance: 1%
footprint chip_0805
pins: 1, 2

## RES-00562
designator R?, comment 8.87k
RES SMD 8.87K OHM 1% 1/8W 0805; Part Number: RES-00562; Manufacturer: Rohm Semiconductor; Manufacturer PN: KTR10EZPF8871; Power Rating: 0.125W; Resistance: 8.87k; Tolerance: 1%
footprint chip_0805
pins: 1, 2

## RES-00563
designator R?, comment 80.6k
RES SMD 80.6K OHM 1% 1/8W 0805; Part Number: RES-00563; Manufacturer: Rohm Semiconductor; Manufacturer PN: KTR10EZPF8062; Power Rating: 0.125W; Resistance: 80.6k; Tolerance: 1%
footprint chip_0805
pins: 1, 2

## RES-00564
designator R?, comment 806k
RES SMD 806K OHM 1% 1/8W 0805; Part Number: RES-00564; Manufacturer: Rohm Semiconductor; Manufacturer PN: KTR10EZPF8063; Power Rating: 0.125W; Resistance: 806k; Tolerance: 1%
footprint chip_0805
pins: 1, 2

## RES-00565
designator R?, comment 82.5k
RES SMD 82.5K OHM 1% 1/8W 0805; Part Number: RES-00565; Manufacturer: Rohm Semiconductor; Manufacturer PN: KTR10EZPF8252; Power Rating: 0.125W; Resistance: 82.5k; Tolerance: 1%
footprint chip_0805
pins: 1, 2

## RES-00566
designator R?, comment 820k
RES SMD 820K OHM 1% 1/4W 0603; Part Number: RES-00566; Manufacturer: Panasonic; Manufacturer PN: ERJ-PA3F8203V; Power Rating: 0.25W; Resistance: 820k; Tolerance: 1%
footprint chip_0603
pins: 1, 2

## RES-00567
designator R?, comment 820k
RES SMD 820K OHM 1% 1/8W 0805; Part Number: RES-00567; Manufacturer: Rohm Semiconductor; Manufacturer PN: KTR10EZPF8203; Power Rating: 0.125W; Resistance: 820k; Tolerance: 1%
footprint chip_0805
pins: 1, 2

## RES-00568
designator R?, comment 825k
RES SMD 825K OHM 1% 1/8W 0805; Part Number: RES-00568; Manufacturer: Rohm Semiconductor; Manufacturer PN: KTR10EZPF8253; Power Rating: 0.125W; Resistance: 825k; Tolerance: 1%
footprint chip_0805
pins: 1, 2

## RES-00569
designator R?, comment 82k
RES SMD 82K OHM 1% 1/4W 0603; Part Number: RES-00569; Manufacturer: Panasonic; Manufacturer PN: ERJ-PA3F8202V; Power Rating: 0.25W; Resistance: 82k; Tolerance: 1%
footprint chip_0603
pins: 1, 2

## RES-00570
designator R?, comment 82k
RES SMD 82K OHM 1% 1/8W 0805; Part Number: RES-00570; Manufacturer: Rohm Semiconductor; Manufacturer PN: KTR10EZPF8202; Power Rating: 0.125W; Resistance: 82k; Tolerance: 1%
footprint chip_0805
pins: 1, 2

## RES-00571
designator R?, comment 84.5k
RES SMD 84.5K OHM 1% 1/8W 0805; Part Number: RES-00571; Manufacturer: Rohm Semiconductor; Manufacturer PN: KTR10EZPF8452; Power Rating: 0.125W; Resistance: 84.5k; Tolerance: 1%
footprint chip_0805
pins: 1, 2

## RES-00572
designator R?, comment 845k
RES SMD 845K OHM 1% 1/8W 0805; Part Number: RES-00572; Manufacturer: Rohm Semiconductor; Manufacturer PN: KTR10EZPF8453; Power Rating: 0.125W; Resistance: 845k; Tolerance: 1%
footprint chip_0805
pins: 1, 2

## RES-00573
designator R?, comment 86.6k
RES SMD 86.6K OHM 1% 1/8W 0805; Part Number: RES-00573; Manufacturer: Rohm Semiconductor; Manufacturer PN: KTR10EZPF8662; Power Rating: 0.125W; Resistance: 86.6k; Tolerance: 1%
footprint chip_0805
pins: 1, 2

## RES-00574
designator R?, comment 887k
RES SMD 887K OHM 1% 1/8W 0805; Part Number: RES-00574; Manufacturer: Rohm Semiconductor; Manufacturer PN: KTR10EZPF8873; Power Rating: 0.125W; Resistance: 887k; Tolerance: 1%
footprint chip_0805
pins: 1, 2

## RES-00575
designator R?, comment 9.09k
RES SMD 9.09K OHM 1% 1/8W 0805; Part Number: RES-00575; Manufacturer: Rohm Semiconductor; Manufacturer PN: KTR10EZPF9091; Power Rating: 0.125W; Resistance: 9.09k; Tolerance: 1%
footprint chip_0805
pins: 1, 2

## RES-00576
designator R?, comment 9.1k
RES SMD 9.1K OHM 1% 1/4W 0603; Part Number: RES-00576; Manufacturer: Panasonic; Manufacturer PN: ERJ-PA3F9101V; Power Rating: 0.25W; Resistance: 9.1k; Tolerance: 1%
footprint chip_0603
pins: 1, 2

## RES-00577
designator R?, comment 9.1k
RES SMD 9.1K OHM 1% 1/8W 0805; Part Number: RES-00577; Manufacturer: Rohm Semiconductor; Manufacturer PN: KTR10EZPF9101; Power Rating: 0.125W; Resistance: 9.1k; Tolerance: 1%
footprint chip_0805
pins: 1, 2

## RES-00578
designator R?, comment 9.1M
RES SMD 9.1M OHM 1% 1/8W 0805; Part Number: RES-00578; Manufacturer: Rohm Semiconductor; Manufacturer PN: KTR10EZPF9104; Power Rating: 0.125W; Resistance: 9.1M; Tolerance: 1%
footprint chip_0805
pins: 1, 2

## RES-00579
designator R?, comment 9.31k
RES SMD 9.31K OHM 1% 1/8W 0805; Part Number: RES-00579; Manufacturer: Rohm Semiconductor; Manufacturer PN: KTR10EZPF9311; Power Rating: 0.125W; Resistance: 9.31k; Tolerance: 1%
footprint chip_0805
pins: 1, 2

## RES-00580
designator R?, comment 9.53k
RES SMD 9.53K OHM 1% 1/8W 0805; Part Number: RES-00580; Manufacturer: Rohm Semiconductor; Manufacturer PN: KTR10EZPF9531; Power Rating: 0.125W; Resistance: 9.53k; Tolerance: 1%
footprint chip_0805
pins: 1, 2

## RES-00581
designator R?, comment 9.76k
RES SMD 9.76K OHM 1% 1/8W 0805; Part Number: RES-00581; Manufacturer: Rohm Semiconductor; Manufacturer PN: KTR10EZPF9761; Power Rating: 0.125W; Resistance: 9.76k; Tolerance: 1%
footprint chip_0805
pins: 1, 2

## RES-00582
designator R?, comment 90.9k
RES SMD 90.9K OHM 1% 1/8W 0805; Part Number: RES-00582; Manufacturer: Rohm Semiconductor; Manufacturer PN: KTR10EZPF9092; Power Rating: 0.125W; Resistance: 90.9k; Tolerance: 1%
footprint chip_0805
pins: 1, 2

## RES-00583
designator R?, comment 909k
RES SMD 909K OHM 1% 1/8W 0805; Part Number: RES-00583; Manufacturer: Rohm Semiconductor; Manufacturer PN: KTR10EZPF9093; Power Rating: 0.125W; Resistance: 909k; Tolerance: 1%
footprint chip_0805
pins: 1, 2

## RES-00584
designator R?, comment 910k
RES SMD 910K OHM 1% 1/4W 0603; Part Number: RES-00584; Manufacturer: Panasonic; Manufacturer PN: ERJ-PA3F9103V; Power Rating: 0.25W; Resistance: 910k; Tolerance: 1%
footprint chip_0603
pins: 1, 2

## RES-00585
designator R?, comment 910k
RES SMD 910K OHM 1% 1/8W 0805; Part Number: RES-00585; Manufacturer: Rohm Semiconductor; Manufacturer PN: KTR10EZPF9103; Power Rating: 0.125W; Resistance: 910k; Tolerance: 1%
footprint chip_0805
pins: 1, 2

## RES-00586
designator R?, comment 91k
RES SMD 91K OHM 1% 1/4W 0603; Part Number: RES-00586; Manufacturer: Panasonic; Manufacturer PN: ERJ-PA3F9102V; Power Rating: 0.25W; Resistance: 91k; Tolerance: 1%
footprint chip_0603
pins: 1, 2

## RES-00587
designator R?, comment 93.1k
RES SMD 93.1K OHM 1% 1/8W 0805; Part Number: RES-00587; Manufacturer: Rohm Semiconductor; Manufacturer PN: KTR10EZPF9312; Power Rating: 0.125W; Resistance: 93.1k; Tolerance: 1%
footprint chip_0805
pins: 1, 2

## RES-00588
designator R?, comment 95.3k
RES SMD 95.3K OHM 1% 1/8W 0805; Part Number: RES-00588; Manufacturer: Rohm Semiconductor; Manufacturer PN: KTR10EZPF9532; Power Rating: 0.125W; Resistance: 95.3k; Tolerance: 1%
footprint chip_0805
pins: 1, 2

## RES-00589
designator R?, comment 56.3k
RES SMD 56.3K OHM 1% 1/10W 0603; Part Number: RES-00589; Power Rating: 0.1W; Resistance: 56.3k; Tolerance: 1%
footprint chip_0603
pins: 1, 2

## RES-00590
designator R?, comment 470M
RES SMD 470M OHM 5% 1/4W 1206; Part Number: RES-00590; Manufacturer: Vishay Dale; Manufacturer PN: CRCW1206470MJPEAHR; Power Rating: 0.25W; Resistance: 470M; Tolerance: 5%
footprint chip_1206
pins: 1, 2

## RES-00591
designator R?, comment 10M
RES SMD 10M OHM 1% 1/8W 0603; Part Number: RES-00591; Power Rating: 0.1W; Resistance: 10M; Tolerance: 1%
footprint chip_0603
pins: 1, 2

## RES-00592
designator R?, comment res_single_pot  (value not drawn)
POT THT 10K OHM 20% 1/5W; Part Number: RES-00592; Manufacturer: TT Electronics; Manufacturer PN: P160KN-0QC15B10K; Power Rating: 0.2W; Resistance: 10k; Tolerance: 20%
footprint POT_P160KN
pins: 1, 2, 3

## RES-00593
designator R?, comment res_single_pot  (value not drawn)
POT THT 10K OHM 10% 2W; Part Number: RES-00593; Manufacturer: Bourns Inc; Manufacturer PN: 91A1A-B28-A15L; Resistance: 10k; Tolerance: 10%; Power Rating: 2W
footprint 91A1A-B28
pins: 1, 2, 3

## RES-00594
designator R?, comment res_single_pot  (value not drawn)
POT THT 10K OHM 20% 1/4W; Part Number: RES-00594; Manufacturer: Bourns Inc; Manufacturer PN: 3310P-025-103L; Power Rating: 0.25W; Resistance: 10k; Tolerance: 20%
footprint POT_3310P-025
pins: 1, 2, 3

## RES-00595
designator R?, comment 100
RES SMD 100 OHM 1% 1/2W 1206; Part Number: RES-00595; Power Rating: 0.5W; Resistance: 100; Tolerance: 1%
footprint chip_1206
pins: 1, 2

## RES-00596
designator R?, comment 1M
RES SMD 1M OHM 1% 1/2W 1206; Part Number: RES-00596; Power Rating: 0.5W; Resistance: 1M; Tolerance: 1%
footprint chip_1206
pins: 1, 2

## RES-00597
designator R?, comment 100k
RES SMD 100k OHM 1% 1/2W 1206; Part Number: RES-00597; Power Rating: 0.5W; Resistance: 100k; Tolerance: 1%
footprint chip_1206
pins: 1, 2

## RES-00598
designator R?, comment 0.15
RES SMD 0.15 OHM 1% 1W 2010; Part Number: RES-00598; Manufacturer: Vishay Dale; Manufacturer PN: WSL2010R1500FEA18; Resistance: 0.15; Tolerance: 1%; Power Rating: 1W
footprint chip_2010
pins: 1, 2

## RES-00599
designator R?, comment 470k
RES SMD 470k OHM 1% 0.5W 1206; Part Number: RES-00599; Resistance: 470k; Tolerance: 1%; Power Rating: 0.5W
footprint chip_1206
pins: 1, 2

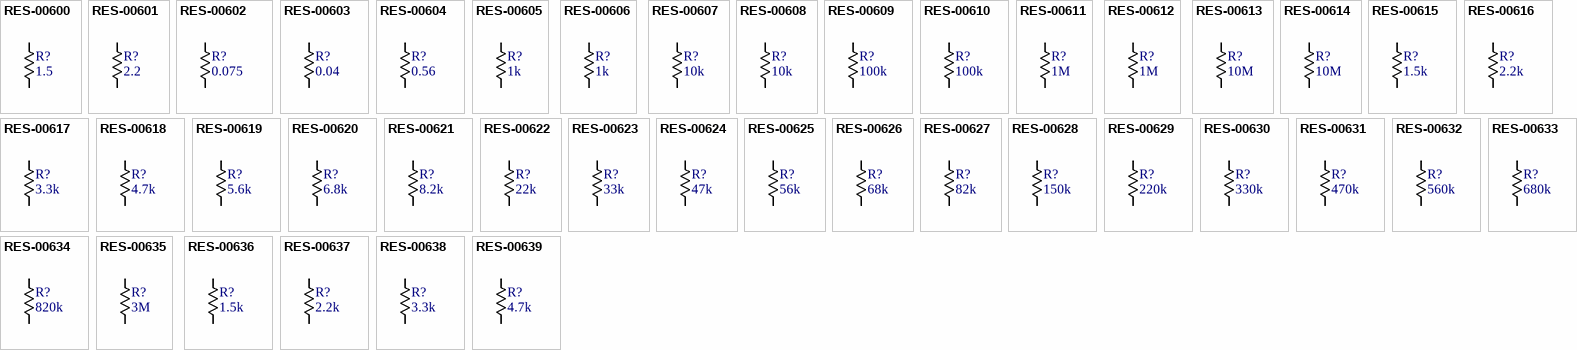
[diagram p15: symbols RES-00600 to RES-00639]

## RES-00600
designator R?, comment 1.5
RES SMD 1.5 OHM 1% 1/4W 0805; Part Number: RES-00600; Power Rating: 0.25W; Resistance: 1.5; Tolerance: 1%
footprint chip_0805
pins: 1, 2

## RES-00601
designator R?, comment 2.2
RES SMD 2.2 OHM 1% 1/4W 0805; Part Number: RES-00601; Power Rating: 0.25W; Resistance: 2.2; Tolerance: 1%
footprint chip_0805
pins: 1, 2

## RES-00602
designator R?, comment 0.075
RES THT 0.075 OHM 1% 100W TO-247-2; Part Number: RES-00602; Manufacturer: Caddock; Manufacturer PN: MP9100-0.075-1%; Resistance: 0.075; Tolerance: 1%; Power Rating: 100W
footprint TO-247-2_0
pins: 1, 2

## RES-00603
designator R?, comment 0.04
RES SMD 0.04 OHM 1% 1/2W 2010; Part Number: RES-00603; Manufacturer: Vishay Dale; Manufacturer PN: WSL2010R0400FEA; Power Rating: 0.5W; Resistance: 0.04; Tolerance: 1%
footprint chip_2010
pins: 1, 2

## RES-00604
designator R?, comment 0.56
RES SMD 0.56 OHM 1% 1/8W 0805; Part Number: RES-00604; Manufacturer: Panasonic; Manufacturer PN: ERJ-6RQFR56V; Power Rating: 0.125W; Resistance: 0.56; Tolerance: 1%
footprint chip_0805
pins: 1, 2

## RES-00605
designator R?, comment 1k
RES THT 1K OHM 1% 1/4W 0.3" AXIAL; Part Number: RES-00605; Power Rating: 0.25W; Resistance: 1k; Tolerance: 1%
footprint axial_0.3
pins: 1, 2

## RES-00606
designator R?, comment 1k
RES THT 1K OHM 1% 1/4W 0.4" AXIAL; Part Number: RES-00606; Power Rating: 0.25W; Resistance: 1k; Tolerance: 1%
footprint axial_0.4
pins: 1, 2

## RES-00607
designator R?, comment 10k
RES THT 10K OHM 1% 1/4W 0.3" AXIAL; Part Number: RES-00607; Power Rating: 0.25W; Resistance: 10k; Tolerance: 1%
footprint axial_0.3
pins: 1, 2

## RES-00608
designator R?, comment 10k
RES THT 10K OHM 1% 1/4W 0.4" AXIAL; Part Number: RES-00608; Power Rating: 0.25W; Resistance: 10k; Tolerance: 1%
footprint axial_0.4
pins: 1, 2

## RES-00609
designator R?, comment 100k
RES THT 100K OHM 1% 1/4W 0.3" AXIAL; Part Number: RES-00609; Power Rating: 0.25W; Resistance: 100k; Tolerance: 1%
footprint axial_0.3
pins: 1, 2

## RES-00610
designator R?, comment 100k
RES THT 100K OHM 1% 1/4W 0.4" AXIAL; Part Number: RES-00610; Power Rating: 0.25W; Resistance: 100k; Tolerance: 1%
footprint axial_0.4
pins: 1, 2

## RES-00611
designator R?, comment 1M
RES THT 1M OHM 1% 1/4W 0.3" AXIAL; Part Number: RES-00611; Power Rating: 0.25W; Resistance: 1M; Tolerance: 1%
footprint axial_0.3
pins: 1, 2

## RES-00612
designator R?, comment 1M
RES THT 1M OHM 1% 1/4W 0.4" AXIAL; Part Number: RES-00612; Power Rating: 0.25W; Resistance: 1M; Tolerance: 1%
footprint axial_0.4
pins: 1, 2

## RES-00613
designator R?, comment 10M
RES THT 10M OHM 1% 1/4W 0.3" AXIAL; Part Number: RES-00613; Power Rating: 0.25W; Resistance: 10M; Tolerance: 1%
footprint axial_0.3
pins: 1, 2

## RES-00614
designator R?, comment 10M
RES THT 10M OHM 1% 1/4W 0.4" AXIAL; Part Number: RES-00614; Power Rating: 0.25W; Resistance: 10M; Tolerance: 1%
footprint axial_0.4
pins: 1, 2

## RES-00615
designator R?, comment 1.5k
RES THT 1.5k OHM 1% 1/4W 0.3 AXIAL; Part Number: RES-00615; Resistance: 1.5k; Tolerance: 1%; Power Rating: 1/4W
footprint axial_0.3
pins: 1, 2

## RES-00616
designator R?, comment 2.2k
RES THT 2.2k OHM 1% 0.25W 0.3 AXIAL; Part Number: RES-00616; Resistance: 2.2k; Tolerance: 1%; Power Rating: 0.25W
footprint axial_0.3
pins: 1, 2

## RES-00617
designator R?, comment 3.3k
RES THT 3.3k OHM 1% 0.25W 0.3 AXIAL; Part Number: RES-00617; Resistance: 3.3k; Tolerance: 1%; Power Rating: 0.25W
footprint axial_0.3
pins: 1, 2